# Altium schematic symbol library ISP1504.SchLib: 1 symbol
Pins are listed as number, name and electrical type; pins without a type are passive.

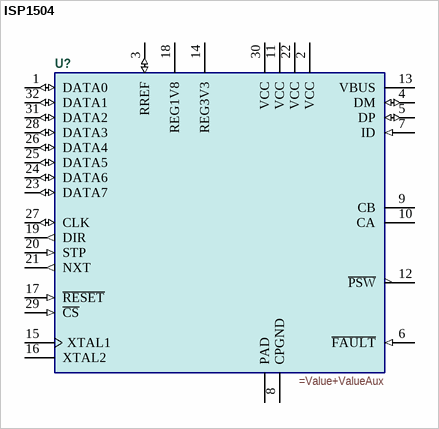
[diagram p0: symbol ISP1504]

## ISP1504
designator U?
=Description
pins: 1 DATA0 (io), 2 VCC (power), 3 RREF (io), 4 DM (io), 5 DP (io), 6 ~{FAULT} (in), 7 ID (in), 8 CPGND (power), 9 CB, 10 CA, 11 VCC (power), 12 ~{PSW} (oc), 13 VBUS (power), 14 REG3V3 (power), 15 XTAL1, 16 XTAL2, 17 ~{RESET} (in), 18 REG1V8 (power), 19 DIR (out), 20 STP (in), 21 NXT (out), 22 VCC (power), 23 DATA7 (io), 24 DATA6 (io), 25 DATA5 (io), 26 DATA4 (io), 27 CLK (io), 28 DATA3 (io), 29 ~{CS} (in), 30 VCC (power), 31 DATA2 (io), 32 DATA1 (io), PAD (power) "die pad"